# Altium footprint library PCB - BUZZER - PUI Audio SMI-1027-TW-5V-R.PCBLIB: 1 footprints
Each footprint in its own frame and in the unit in brackets; x right, y up, seen from the top. Pads: shape width x height; smd on the part's side, far side on the other; paste and mask are expansions set on the pad; w line width, h text height; cw(c..) or ccw(c..) is an arc to the next point about the centre after c.
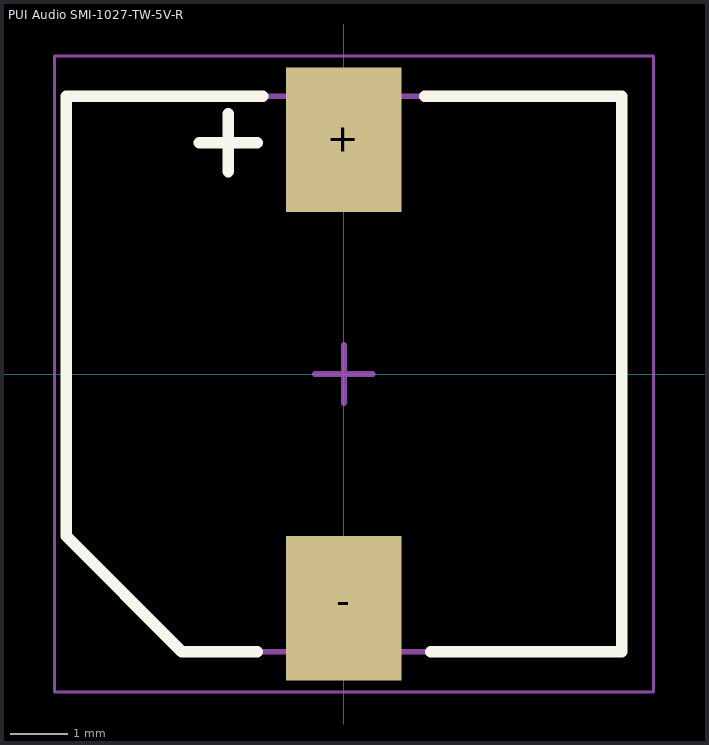
[diagram p0: the footprint, top view; thin cyan lines are the x and y axes]

## PUI Audio SMI-1027-TW-5V-R [mm] "Buzzer 9.6x9.6mm"
height 5
pads (2):
  rect 2x2.5 smd: +(0,4.05) -(0,-4.05)
Top Overlay:
  lines w0.2: -2.5,4 -1.5,4 ; -2,3.5 -2,4.5 ; -1.5,-4.8 -2.8,-4.8 -4.8,-2.8 -4.8,4.8 -1.4,4.8 ; 1.4,4.8 4.8,4.8 4.8,-4.8 1.5,-4.8
Mechanical 13:
  lines w0.1: -4.8,-2.8 -2.8,-4.8 4.8,-4.8 4.8,4.8 -4.8,4.8 -4.8,-2.8
Mechanical 15:
  lines w0.05: -5,-5.5 -5,5.5 5.35,5.5 5.35,-5.5 -5,-5.5
  lines w0.1: -0.5,0 0.5,0 ; 0,-0.5 0,0.5
3D body "PUI Audio - SMI-1027-TW-5V-R.step": height 5, standoff 0, extent -4.8,-5 4.8,5